# Altium integrated library IRM-30-12.IntLib: 2 symbols
Pins are listed as number, name and electrical type; pins without a type are passive.

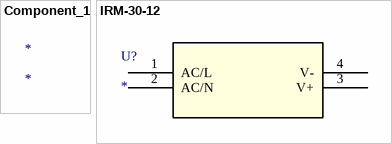
[diagram p0: symbols Component_1 to IRM-30-12]

## Component_1
designator *

## IRM-30-12
designator U?
No Description Available; Mfr_Name: Mean Well; RefDes: RefDes; Type: Type
footprint IRM-30_MWU
pins: 1 AC/L, 2 AC/N, 3 V+ (power), 4 V- (power)